# Altium schematic symbol library CAPACITORS.SchLib: 70 symbols
Pins are listed as number, name and electrical type; pins without a type are passive.

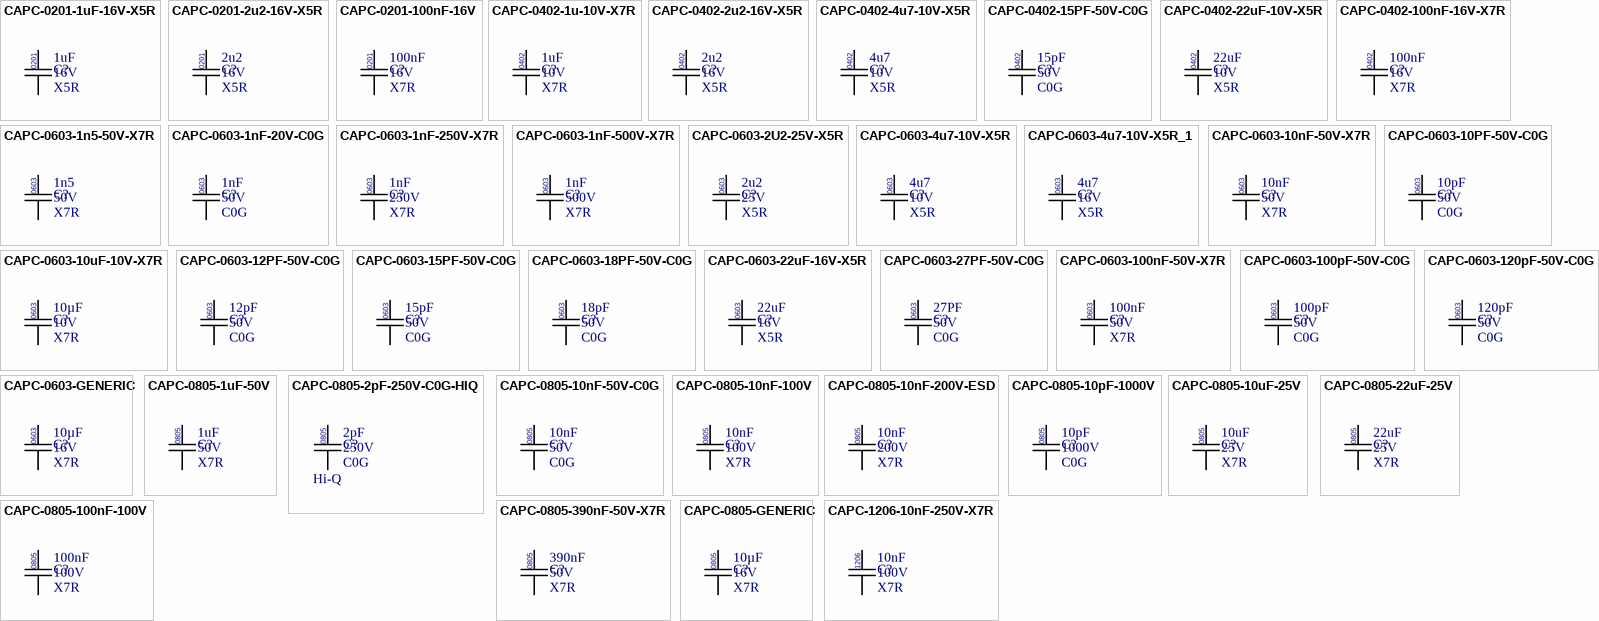
[diagram p0: symbols CAPC-0201-1uF-16V-X5R to CAPC-1206-10nF-250V-X7R]

## CAPC-0201-1uF-16V-X5R
designator C?, comment Dielectric: X5R  Voltage: 16V  Capacitance: 1uF  (hidden comment: CAP0201)
CAPACITOR,CERAMIC,1uF,16V,X5R,0201; Manufacturer 1: SAMSUNG; Manufacturer Part Number 1: CL03A105MO3NRNH; Package / Case: 0402; Location: *; LCSC: C307385; Supplier 1: Digikey; Supplier Part Number 1: 1276-6798-1-ND; MOUSER: 187-CL03A105MO3NRNH
footprint CAPC0201
pins: 1, 2
text: 0201

## CAPC-0201-2u2-16V-X5R
designator C?, comment Dielectric: X5R  Voltage: 16V  Capacitance: 2u2  (hidden comment: CAP0201)
CAPACITOR,CERAMIC,2u2,16V,X5R,0201; Manufacturer 1: MURATA; Manufacturer Part Number 1: GRM035R61C225ME01D; Package / Case: 0402; Location: *; LCSC: C6204143; Supplier 1: Mouser; Supplier Part Number 1: 81-GRM035R61C225ME1D; MOUSER: 81-GRM035R61C225ME1D
footprint CAPC0201
pins: 1, 2
text: 0201

## CAPC-0201-100nF-16V
designator C?, comment Dielectric: X7R  Voltage: 16V  Capacitance: 100nF  (hidden comment: CAP0201)
CAPACITOR,CERAMIC,100nF,16V,X7R,0201; Manufacturer 1: MURATA; Manufacturer Part Number 1: GRM033Z71C104KE14D; Package / Case: 0402; Location: *; LCSC: C668346; Supplier 1: Digikey; Supplier Part Number 1: 490-GRM033Z71C104KE14DCT-ND; MOUSER: 81-GRM033Z71C104KE4D
footprint CAPC0201
pins: 1, 2
text: 0201

## CAPC-0402-1u-10V-X7R
designator C?, comment Dielectric: X7R  Voltage: 10V  Capacitance: 1uF  (hidden comment: CAP0402)
CAPACITOR,CERAMIC,1uF,10V,X7R,0402; Manufacturer 1: MURATA; Manufacturer Part Number 1: GRM155Z71A105KE01D; Package / Case: 0603; Location: *; LCSC: C528974; Supplier 1: Mouser; Supplier Part Number 1: 81-GRM155Z71A105KE1D; MOUSER: 81-GRM155Z71A105KE1D
footprint CAPC0402 (CAPACITOR, CHIP 0402 (1005) 0.5MM THICK)
pins: 1, 2
text: 0402

## CAPC-0402-2u2-16V-X5R
designator C?, comment Dielectric: X5R  Voltage: 16V  Capacitance: 2u2  (hidden comment: CAP0402)
CAPACITOR,CERAMIC,2u2,16V,X5R,0402; Manufacturer 1: SAMSUNG; Manufacturer Part Number 1: CL05A225KO5NQNC; Package / Case: 0402; Location: *; Supplier 1: Digikey; Supplier Part Number 1: 1276-1482-1-ND; LCSC: C170151; MOUSER: 187-CL05A475MP5NRNC
footprint CAPC0402 (CAPACITOR, CHIP 0402 (1005) 0.5MM THICK)
pins: 1, 2

## CAPC-0402-4u7-10V-X5R
designator C?, comment Dielectric: X5R  Voltage: 10V  Capacitance: 4u7  (hidden comment: CAP0402)
CAPACITOR,CERAMIC,4u7,10V,X5R,0402; Manufacturer 1: SAMSUNG; Manufacturer Part Number 1: CL05A475MP5NRNC; Package / Case: 0402; Location: *; Supplier 1: Digikey; Supplier Part Number 1: 1276-1482-1-ND; LCSC: C23733; MOUSER: 187-CL05A475MP5NRNC
footprint CAPC0402 (CAPACITOR, CHIP 0402 (1005) 0.5MM THICK)
pins: 1, 2

## CAPC-0402-15PF-50V-C0G
designator C?, comment Dielectric: C0G  Voltage: 50V  Capacitance: 15pF  (hidden comment: CAP0603)
CAPACITOR,CERAMIC,15pF,50V,C0G,0402; Manufacturer 1: YAGEO; Manufacturer Part Number 1: CC0402KRNPO9BN150; Package / Case: 0402; Location: *; LCSC: C3906764; Supplier 1: Digikey; Supplier Part Number 1: 311-3780-1-ND; MOUSER: 603-CC402KRNPO9BN150
footprint CAPC0402 (CAPACITOR, CHIP 0402 (1005) 0.5MM THICK)
pins: 1, 2

## CAPC-0402-22uF-10V-X5R
designator C?, comment Dielectric: X5R  Voltage: 10V  Capacitance: 22uF  (hidden comment: CAP0402)
CAPACITOR,CERAMIC,22uF,10V,X5R,0402; Manufacturer 1: SAMSUNG; Package / Case: 0402; Location: *; Supplier 1: Digikey; Supplier Part Number 1: 1276-1482-1-ND; LCSC: C6119813
footprint CAPC0402 (CAPACITOR, CHIP 0402 (1005) 0.5MM THICK)
pins: 1, 2

## CAPC-0402-100nF-16V-X7R
designator C?, comment Dielectric: X7R  Voltage: 16V  Capacitance: 100nF  (hidden comment: CAP0402)
CAPACITOR,CERAMIC,100nF,16V,X7R,0402; Manufacturer 1: YAGEO; Manufacturer Part Number 1: CC0402KRX7R7BB104; Package / Case: 0402; Location: *; Supplier 1: Digikey; Supplier Part Number 1: 1292-1630-1-ND; LCSC: C60474; MOUSER: 603-CC402KRX7R7BB104
footprint CAPC0402 (CAPACITOR, CHIP 0402 (1005) 0.5MM THICK)
pins: 1, 2

## CAPC-0603-1n5-50V-X7R
designator C?, comment Dielectric: X7R  Voltage: 50V  Capacitance: 1n5  (hidden comment: CAP0603)
CAPACITOR,CERAMIC,1n5,50V,X7R,0603; Package / Case: 0603; Location: *
footprint CAPC0603 (CAPACITOR, CHIP 0603 (1608) 0.5MM THICK)
pins: 1, 2

## CAPC-0603-1nF-20V-C0G
designator C?, comment Dielectric: C0G  Voltage: 50V  Capacitance: 1nF  (hidden comment: CAP0603)
CAPACITOR,CERAMIC,1nF,50V,C0G,0603; Package / Case: 0603; Location: *
footprint CAPC0603 (CAPACITOR, CHIP 0603 (1608) 0.5MM THICK)
pins: 1, 2

## CAPC-0603-1nF-250V-X7R
designator C?, comment Dielectric: X7R  Voltage: 250V  Capacitance: 1nF  (hidden comment: CAP0603)
CAPACITOR,CERAMIC,1nF,250V,X7R,0603; Manufacturer 1: YAGEO; Manufacturer Part Number 1: CC0603KRX7RYBB102; Package / Case: 0603; Location: *; LCSC: C277510; Supplier 1: Digikey; Supplier Part Number 1: 311-4104-1-ND; MOUSER: 603-CC0603KRYBB102
footprint CAPC0603 (CAPACITOR, CHIP 0603 (1608) 0.5MM THICK)
pins: 1, 2

## CAPC-0603-1nF-500V-X7R
designator C?, comment Dielectric: X7R  Voltage: 500V  Capacitance: 1nF  (hidden comment: CAP0603)
CAPACITOR,CERAMIC,1nF,500V,X7R,0603; Manufacturer 1: KEMET; Manufacturer Part Number 1: C0603C102KCRACTU; Package / Case: 0603; Location: *; LCSC: C48579276; MOUSER: 80-C0603C102KCRACTU
footprint CAPC0603 (CAPACITOR, CHIP 0603 (1608) 0.5MM THICK)
pins: 1, 2

## CAPC-0603-2U2-25V-X5R
designator C?, comment Dielectric: X5R  Voltage: 25V  Capacitance: 2u2  (hidden comment: CAP0603)
CAPACITOR,CERAMIC,2u2,25V,X5R,0603; Manufacturer 1: MURATA; Manufacturer Part Number 1: GRM188R61E225KA12D; Package / Case: 0603; Location: *; Supplier 1: Digikey; Supplier Part Number 1: 587-2909-1-ND; Supplier 2: Mouser; Supplier Part Number 2: 81-GRM188R61E225KA2D; Supplier 3: Digikey; Supplier Part Number 3: 445-5964-1-ND; MOUSER: 81-GRM188R61E225KA2D
footprint CAPC0603 (CAPACITOR, CHIP 0603 (1608) 0.5MM THICK)
pins: 1, 2

## CAPC-0603-4u7-10V-X5R
designator C?, comment Dielectric: X5R  Voltage: 10V  Capacitance: 4u7  (hidden comment: CAP0603)
CAPACITOR,CERAMIC,4u7,10V,X5R,0603; Manufacturer 1: SAMSUNG; Manufacturer Part Number 1: CL10A475KP8NNNC; Package / Case: 0603; Location: *; Supplier 1: Arrow Electronics; Supplier Part Number 1: GRM188Z71A475KE15J; LCSC: C1705; MOUSER: 187-CL10A475KP8NNNC
footprint CAPC0603 (CAPACITOR, CHIP 0603 (1608) 0.5MM THICK)
pins: 1, 2

## CAPC-0603-4u7-10V-X5R_1
designator C?, comment Dielectric: X5R  Voltage: 16V  Capacitance: 4u7  (hidden comment: CAP0603)
CAPACITOR,CERAMIC,4u7,16V,X5R,0603; Manufacturer 1: Samsung Electro-Mechanics; Manufacturer Part Number 1: CL10A475KO8NNNC; Package / Case: 0603; Location: *; LCSC: C19666
footprint CAPC0603 (CAPACITOR, CHIP 0603 (1608) 0.5MM THICK)
pins: 1, 2

## CAPC-0603-10nF-50V-X7R
designator C?, comment Dielectric: X7R  Voltage: 50V  Capacitance: 10nF  (hidden comment: CAP0603)
CAPACITOR,CERAMIC,10nF,50V,X7R,0603; Package / Case: 0603; Location: *
footprint CAPC0603 (CAPACITOR, CHIP 0603 (1608) 0.5MM THICK)
pins: 1, 2

## CAPC-0603-10PF-50V-C0G
designator C?, comment Dielectric: C0G  Voltage: 50V  Capacitance: 10pF  (hidden comment: CAP0603)
CAPACITOR,CERAMIC,10pF,50V,C0G,0603; Manufacturer 1: KYOCERA; Manufacturer Part Number 1: C0603C100J5GAC; Package / Case: 0603; Location: *; MOUSER: 80-C0603C100J5GAC
footprint CAPC0603 (CAPACITOR, CHIP 0603 (1608) 0.5MM THICK)
pins: 1, 2

## CAPC-0603-10uF-10V-X7R
designator C?, comment Dielectric: X7R  Voltage: 10V  Capacitance: 10µF  (hidden comment: CAP0603)
CAPACITOR,CERAMIC,10uF,10V,X7R,0603; Manufacturer 1: MURATA; Manufacturer Part Number 1: GRM188Z71A106KA73D; Package / Case: 0603; Location: *; LCSC: C2959727
footprint CAPC0603 (CAPACITOR, CHIP 0603 (1608) 0.5MM THICK)
pins: 1, 2

## CAPC-0603-12PF-50V-C0G
designator C?, comment Dielectric: C0G  Voltage: 50V  Capacitance: 12pF  (hidden comment: CAP0603)
CAPACITOR,CERAMIC,12pF,50V,C0G,0603; Manufacturer 1: KYOCERA; Manufacturer Part Number 1: 06035A120CAT2A; Package / Case: 0603; Location: *; MOUSER: 581-06035A120CAT2A
footprint CAPC0603 (CAPACITOR, CHIP 0603 (1608) 0.5MM THICK)
pins: 1, 2

## CAPC-0603-15PF-50V-C0G
designator C?, comment Dielectric: C0G  Voltage: 50V  Capacitance: 15pF  (hidden comment: CAP0603)
CAPACITOR,CERAMIC,15pF,50V,C0G,0603; Manufacturer 1: KEMET; Manufacturer Part Number 1: C0603C150J5GACAUTO; Package / Case: 0603; Location: *; MOUSER: 80-C0603C150J5GAUTO
footprint CAPC0603 (CAPACITOR, CHIP 0603 (1608) 0.5MM THICK)
pins: 1, 2

## CAPC-0603-18PF-50V-C0G
designator C?, comment Dielectric: C0G  Voltage: 50V  Capacitance: 18pF  (hidden comment: CAP0603)
CAPACITOR,CERAMIC,18pF,50V,C0G,0603; Manufacturer 1: KEMET; Manufacturer Part Number 1: C0603C180K5GACTU; Package / Case: 0603; Location: *; LCSC: C2169518; MOUSER: 80-C0603C180K5G
footprint CAPC0603 (CAPACITOR, CHIP 0603 (1608) 0.5MM THICK)
pins: 1, 2

## CAPC-0603-22uF-16V-X5R
designator C?, comment Dielectric: X5R  Voltage: 16V  Capacitance: 22uF  (hidden comment: CAP0603)
CAPACITOR,CERAMIC,22uF,16V,X5R,0603; Manufacturer 1: SAMSUNG; Manufacturer Part Number 1: CL10A226MO7JZNC; Package / Case: 0603; Location: *; Supplier 1: Digikey; Supplier Part Number 1: 1276-7076-1-ND; LCSC: C2762594; MOUSER: 187-CL10A226MO7JZNC
footprint CAPC0603 (CAPACITOR, CHIP 0603 (1608) 0.5MM THICK)
pins: 1, 2

## CAPC-0603-27PF-50V-C0G
designator C?, comment Dielectric: C0G  Voltage: 50V  Capacitance: 27PF  (hidden comment: CAP0603)
CAPACITOR,CERAMIC,27pF,50V,C0G,0603; Package / Case: 0603; Location: *
footprint CAPC0603 (CAPACITOR, CHIP 0603 (1608) 0.5MM THICK)
pins: 1, 2

## CAPC-0603-100nF-50V-X7R
designator C?, comment Dielectric: X7R  Voltage: 50V  Capacitance: 100nF  (hidden comment: CAP0603)
CAPACITOR,CERAMIC,100nF,50V,X7R,0603; Manufacturer 1: KEMET; Manufacturer Part Number 1: C0603C104K5RACTU; Package / Case: 0603; Location: *; LCSC: C14663; MOUSER: 80-C0603C104K5R
footprint CAPC0603 (CAPACITOR, CHIP 0603 (1608) 0.5MM THICK)
pins: 1, 2

## CAPC-0603-100pF-50V-C0G
designator C?, comment Dielectric: C0G  Voltage: 50V  Capacitance: 100pF  (hidden comment: CAP0603)
CAPACITOR,CERAMIC,100pF,50V,C0G,0603; Package / Case: 0603; Location: *
footprint CAPC0603 (CAPACITOR, CHIP 0603 (1608) 0.5MM THICK)
pins: 1, 2

## CAPC-0603-120pF-50V-C0G
designator C?, comment Dielectric: C0G  Voltage: 50V  Capacitance: 120pF  (hidden comment: CAP0603)
CAPACITOR,CERAMIC,120pF,50V,C0G,0603; Package / Case: 0603; Location: *
footprint CAPC0603 (CAPACITOR, CHIP 0603 (1608) 0.5MM THICK)
pins: 1, 2

## CAPC-0603-GENERIC
designator C?, comment Dielectric: X7R  Voltage: 16V  Capacitance: 10µF  (hidden comment: CAP0603)
CAPACITOR 0603 CERAMIC; Manufacturer Part Number 1: GENERIC; Package / Case: 0603; Location: *
footprint CAPC0603 (CAPACITOR, CHIP 0603 (1608) 0.5MM THICK)
pins: 1, 2

## CAPC-0805-1uF-50V
designator C?, comment Dielectric: X7R  Voltage: 50V  Capacitance: 1uF  (hidden comment: CAP0805)
CAPACITOR,CERAMIC,1uF,50V,X7R,0805; Package / Case: 0805 (2012 metric); Location: *
footprint CAPC0805 (CAPACITOR, CHIP 0805 (2012) 0.85MM THICK)
pins: 1, 2
text: 0805

## CAPC-0805-2pF-250V-C0G-HIQ
designator C?, comment SPECIAL: Hi-Q  Dielectric: C0G  Voltage: 250V  Capacitance: 2pF  (hidden comment: CAP0805)
CAPACITOR,CERAMIC,2pF,250V,C0G,0805,HIQ; Manufacturer 1: JOHANSON; Manufacturer Part Number 1: 251R15S2R0AV4E; Package / Case: 0805 (2012 metric); Location: *; MOUSER: 609-251R15S2R0AV4E
footprint CAPC0805 (CAPACITOR, CHIP 0805 (2012) 0.85MM THICK)
pins: 1, 2
text: 0805

## CAPC-0805-10nF-50V-C0G
designator C?, comment Dielectric: C0G  Voltage: 50V  Capacitance: 10nF  (hidden comment: CAP0805)
CAPACITOR,CERAMIC,10nF,100V,C0G,0805; Manufacturer 1: KEMET; Manufacturer Part Number 1: C0805C103K5GEC7210; Package / Case: 0805 (2012 metric); Location: *; DIGIKEY: 399-C0805C103K5GEC7210CT-ND
footprint CAPC0805 (CAPACITOR, CHIP 0805 (2012) 0.85MM THICK)
pins: 1, 2
text: 0805

## CAPC-0805-10nF-100V
designator C?, comment Dielectric: X7R  Voltage: 100V  Capacitance: 10nF  (hidden comment: CAP0805)
CAPACITOR,CERAMIC,10nF,100V,X7R,0805; Package / Case: 0805 (2012 metric); Location: *
footprint CAPC0805 (CAPACITOR, CHIP 0805 (2012) 0.85MM THICK)
pins: 1, 2
text: 0805

## CAPC-0805-10nF-200V-ESD
designator C?, comment Dielectric: X7R  Voltage: 200V  Capacitance: 10nF  (hidden comment: CAP0805)
CAPACITOR,CERAMIC,10nF,200V,X7R,0805,ESD; Manufacturer 1: KEMET; Manufacturer Part Number 1: C0805C103K2RECAUTO; Package / Case: 0805 (2012 metric); Location: *; LCSC: C36911368; Supplier 1: Mouser; Supplier Part Number 1: 80-C0805C103K2RECAUT; MOUSER: 80-C0805C103K2RECAUT
footprint CAPC0805 (CAPACITOR, CHIP 0805 (2012) 0.85MM THICK)
pins: 1, 2
text: 0805

## CAPC-0805-10pF-1000V
designator C?, comment Dielectric: C0G  Voltage: 1000V  Capacitance: 10pF  (hidden comment: CAP0805)
CAPACITOR,CERAMIC,10pF,1000V,C0G,0805; Manufacturer 1: YAGEO; Manufacturer Part Number 1: CC0805JRNPOCBN100; Package / Case: 0805 (2012 metric); Location: *
footprint CAPC0805 (CAPACITOR, CHIP 0805 (2012) 0.85MM THICK)
pins: 1, 2
text: 0805

## CAPC-0805-10uF-25V
designator C?, comment Dielectric: X7R  Voltage: 25V  Capacitance: 10uF  (hidden comment: CAP0805)
CAPACITOR,CERAMIC,10uF,25V,X5R,0805; Manufacturer 1: SAMSUNG; Manufacturer Part Number 1: CL21B106KAYQNNE; Package / Case: 0805 (2012 metric); Location: *; LCSC: C3039694; MOUSER: 187-CL21B106KAYQNNE
footprint CAPC0805 (CAPACITOR, CHIP 0805 (2012) 0.85MM THICK)
pins: 1, 2
text: 0805

## CAPC-0805-22uF-25V
designator C?, comment Dielectric: X7R  Voltage: 25V  Capacitance: 22uF  (hidden comment: CAP0805)
CAPACITOR,CERAMIC,22uF,25V,X5R,0805; Manufacturer 1: SAMSUNG; Manufacturer Part Number 1: CL21A226MAYNNNE; Package / Case: 0805 (2012 metric); Location: *; MOUSER: 187-CL21A226MAYNNNE
footprint CAPC0805 (CAPACITOR, CHIP 0805 (2012) 0.85MM THICK)
pins: 1, 2
text: 0805

## CAPC-0805-100nF-100V
designator C?, comment Dielectric: X7R  Voltage: 100V  Capacitance: 100nF  (hidden comment: CAP0805)
CAPACITOR,CERAMIC,100nF,100V,X7R,0805; Package / Case: 0805 (2012 metric); Location: *
footprint CAPC0805 (CAPACITOR, CHIP 0805 (2012) 0.85MM THICK)
pins: 1, 2
text: 0805

## CAPC-0805-390nF-50V-X7R
designator C?, comment Dielectric: X7R  Voltage: 50V  Capacitance: 390nF  (hidden comment: CAP0805)
CAPACITOR,CERAMIC,390nF,50V,X7R,0805; Manufacturer 1: KEMET; Manufacturer Part Number 1: C0805C394K5RACTU; Package / Case: 0805 (2012 metric); Location: *
footprint CAPC0805 (CAPACITOR, CHIP 0805 (2012) 0.85MM THICK)
pins: 1, 2
text: 0805

## CAPC-0805-GENERIC
designator C?, comment Dielectric: X7R  Voltage: 16V  Capacitance: 10µF  (hidden comment: CAP0805)
CAPACITOR 0805 CERAMIC; Manufacturer Part Number 1: GENERIC; Package / Case: 0805 (2012 metric); Location: *
footprint CAPC0805 (CAPACITOR, CHIP 0805 (2012) 0.85MM THICK)
pins: 1, 2
text: 0805

## CAPC-1206-10nF-250V-X7R
designator C?, comment Dielectric: X7R  Voltage: 100V  Capacitance: 10nF  (hidden comment: CAP01206)
CAPACITOR,CERAMIC,10nF,250V,X7R,1206; Package / Case: 0805 (2012 metric); Location: *
footprint CAPC0805 (CAPACITOR, CHIP 0805 (2012) 0.85MM THICK)
pins: 1, 2
text: 1206

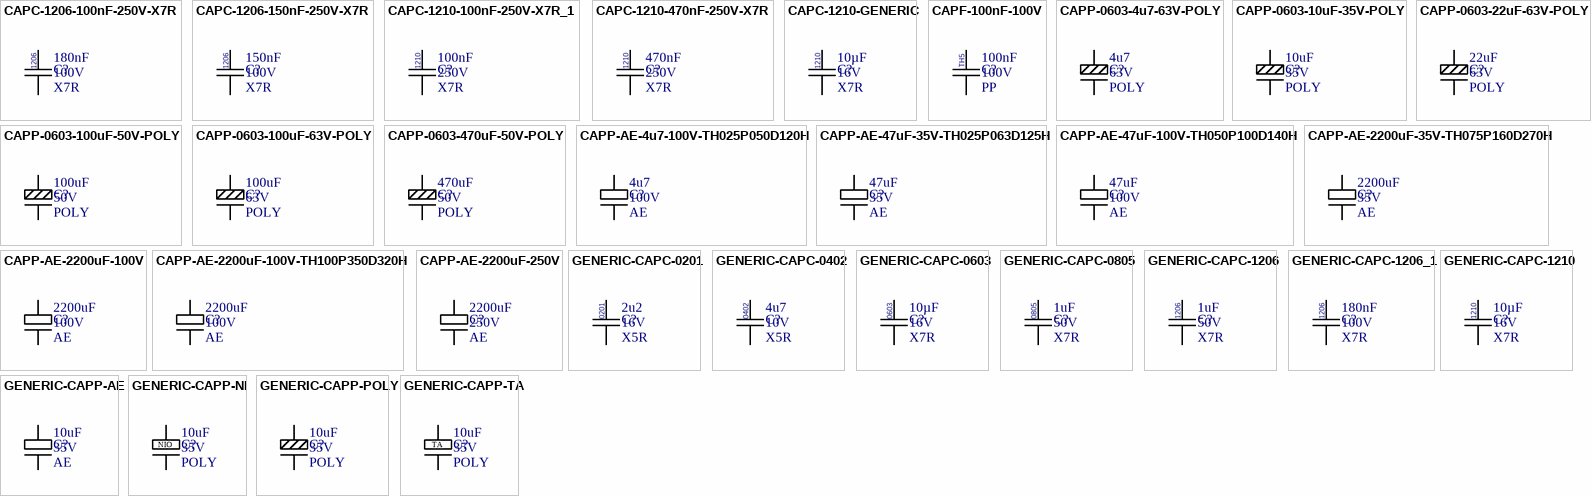
[diagram p1: symbols CAPC-1206-100nF-250V-X7R to GENERIC-CAPP-TA]

## CAPC-1206-100nF-250V-X7R
designator C?, comment Dielectric: X7R  Voltage: 100V  Capacitance: 180nF  (hidden comment: CAP01206)
CAPACITOR,CERAMIC,100nF,250V,X7R,1206; Package / Case: 0805 (2012 metric); Location: *
footprint CAPC0805 (CAPACITOR, CHIP 0805 (2012) 0.85MM THICK)
pins: 1, 2
text: 1206

## CAPC-1206-150nF-250V-X7R
designator C?, comment Dielectric: X7R  Voltage: 100V  Capacitance: 150nF  (hidden comment: CAP01206)
CAPACITOR,CERAMIC,150nF,250V,X7R,1206; Package / Case: 0805 (2012 metric); Location: *
footprint CAPC0805 (CAPACITOR, CHIP 0805 (2012) 0.85MM THICK)
pins: 1, 2
text: 1206

## CAPC-1210-100nF-250V-X7R_1
designator C?, comment Dielectric: X7R  Voltage: 250V  Capacitance: 100nF  (hidden comment: CAPC-1210-100nF-250V-X7R)
CAPACITOR,CERAMIC,100nF,250V,X7R,1210; Manufacturer 1: WALSIN; Manufacturer Part Number 1: SH43B474K251CT; Package / Case: 1210 (3225 METRIC); Location: *; Supplier 1: Mouser; Supplier Part Number 1: 80-C1210C474KARACTU; Supplier 2: Digikey; Supplier Part Number 2: 4587-C1210X474K251TCT-ND; Supplier 3: Digikey; Supplier Part Number 3: 4713-CHV1210N250474KXTCT-ND; Supplier 4: Mouser; Supplier Part Number 4: 80-C1210C474KARAUTO; Supplier 5: Mouser; Supplier Part Number 5: 80-C1210X474KARAUTO; MOUSER: 791-SH43B474K251CT
footprint CAPC1210 (CAPACITOR CHIP 1210 (3225) 2.00MM THICK)
pins: 1, 2
text: 1210

## CAPC-1210-470nF-250V-X7R
designator C?  Dielectric: X7R  Voltage: 250V  Capacitance: 470nF  (hidden comment: CAPC-1210-470nF-250V-X7R)
CAPACITOR,CERAMIC,470nF,250V,X7R,1210; Manufacturer 1: WALSIN; Manufacturer Part Number 1: SH43B474K251CT; Package / Case: 1210 (3225 METRIC); Location: *; Supplier 1: Mouser; Supplier Part Number 1: 80-C1210C474KARACTU; Supplier 2: Digikey; Supplier Part Number 2: 4587-C1210X474K251TCT-ND; Supplier 3: Digikey; Supplier Part Number 3: 4713-CHV1210N250474KXTCT-ND; Supplier 4: Mouser; Supplier Part Number 4: 80-C1210C474KARAUTO; Supplier 5: Mouser; Supplier Part Number 5: 80-C1210X474KARAUTO; MOUSER: 791-SH43B474K251CT
footprint CAPC1210 (CAPACITOR CHIP 1210 (3225) 2.00MM THICK)
pins: 1, 2
text: 1210

## CAPC-1210-GENERIC
designator C?, comment Dielectric: X7R  Voltage: 16V  Capacitance: 10µF  (hidden comment: CAP1210)
CAPACITOR 1210 CERAMIC; Manufacturer Part Number 1: GENERIC; Package / Case: 0805 (2012 metric); Location: *
footprint CAPC1210 (CAPACITOR CHIP 1210 (3225) 2.00MM THICK)
pins: 1, 2
text: 1210

## CAPF-100nF-100V
designator C?, comment Dielectric: PP  Voltage: 100V  Capacitance: 100nF  (hidden comment: CAPF)
CAPACITOR,POLYPROP,100nF,100V; Manufacturer 1: KEMET; Manufacturer Part Number 1: PHE426DJ6100JR05; Package / Case: CAPF50P720X720; Location: *; DIGIKEY: 399-11462-ND
footprint CAPF50P720X720
pins: 1, 2
text: TH5

## CAPP-0603-4u7-63V-POLY
designator C?, comment Dielectric: POLY  Voltage: 63V  Capacitance: 4u7  (hidden comment: CAPP)
CAPACITOR,POLYMER,4u7,63V; Manufacturer 1: PANASONIC; Manufacturer Part Number 1: EEHZC1H101P; Package / Case: CAPP100D102H; Location: *; LCSC: C161937
footprint CAPC0603 (CAPACITOR, CHIP 0603 (1608) 0.5MM THICK)
pins: 1, 2

## CAPP-0603-10uF-35V-POLY
designator C?, comment Dielectric: POLY  Voltage: 35V  Capacitance: 10uF  (hidden comment: CAPP)
CAPACITOR,POLYMER,10uF,35V,63X77; Manufacturer 1: KNSCHA; Manufacturer Part Number 1: 118EC422; Package / Case: CAPP63D77H; Location: *; LCSC: C46528074
footprint CAPC0603 (CAPACITOR, CHIP 0603 (1608) 0.5MM THICK)
pins: 1, 2

## CAPP-0603-22uF-63V-POLY
designator C?, comment Dielectric: POLY  Voltage: 63V  Capacitance: 22uF  (hidden comment: CAPP)
CAPACITOR,POLYMER,22uF,63V,100X102; Manufacturer 1: PANASONIC; Manufacturer Part Number 1: EEHZC1H101P; Package / Case: CAPP100D102H; Location: *; LCSC: C161937
footprint CAPC0603 (CAPACITOR, CHIP 0603 (1608) 0.5MM THICK)
pins: 1, 2

## CAPP-0603-100uF-50V-POLY
designator C?, comment Dielectric: POLY  Voltage: 50V  Capacitance: 100uF  (hidden comment: CAPP)
CAPACITOR,POLYMER,100uF,50V,100X102; Manufacturer 1: PANASONIC; Manufacturer Part Number 1: EEHZC1H101P; Package / Case: CAPP100D102H; Location: *; LCSC: C161937
footprint CAPC0603 (CAPACITOR, CHIP 0603 (1608) 0.5MM THICK)
pins: 1, 2

## CAPP-0603-100uF-63V-POLY
designator C?, comment Dielectric: POLY  Voltage: 63V  Capacitance: 100uF  (hidden comment: CAPP)
CAPACITOR,POLYMER,100uF,63V,100X102; Manufacturer 1: PANASONIC; Manufacturer Part Number 1: EEHZC1H101P; Package / Case: CAPP100D102H; Location: *; LCSC: C161937
footprint CAPC0603 (CAPACITOR, CHIP 0603 (1608) 0.5MM THICK)
pins: 1, 2

## CAPP-0603-470uF-50V-POLY
designator C?, comment Dielectric: POLY  Voltage: 50V  Capacitance: 470uF  (hidden comment: CAPP)
CAPACITOR,POLYMER,470uF,50V,100X102; Manufacturer 1: PANASONIC; Manufacturer Part Number 1: EEHZC1H101P; Package / Case: CAPP100D102H; Location: *; LCSC: C161937
footprint CAPC0603 (CAPACITOR, CHIP 0603 (1608) 0.5MM THICK)
pins: 1, 2

## CAPP-AE-4u7-100V-TH025P050D120H
designator C?, comment Dielectric: AE  Voltage: 100V  Capacitance: 4u7  (hidden comment: CAP0603)
CAPACITOR,ALU,4u7,100V,TH,P0.25mm,D50mm,H12mm; Manufacturer 1: PANASONIC; Manufacturer Part Number 1: ECA-2AM4R7I; Location: *
footprint CAPAE-PANASONIC-ECA-2AM4R7I (CAPACITOR,ALU-EL,PANASONIC-ECA-2AM4R7I)
pins: 1, 2

## CAPP-AE-47uF-35V-TH025P063D125H
designator C?, comment Dielectric: AE  Voltage: 35V  Capacitance: 47uF  (hidden comment: CAP0603)
CAPACITOR,ALU,47uF,35V,TH,P0.25mm,D6.3mm,H12.5mm; Manufacturer 1: KEMET; Manufacturer Part Number 1: ESW476M035AE3AA; Location: *
footprint CAPAE-KEMET-ESW476M035AE3AA (CAPACITOR,ALU-EL,KEMET-ESW476M035AE3AA)
pins: 1, 2

## CAPP-AE-47uF-100V-TH050P100D140H
designator C?, comment Dielectric: AE  Voltage: 100V  Capacitance: 47uF  (hidden comment: CAP0603)
CAPACITOR,ALU,47uF,100V,TH,P5mm,D10mm,H14mm; Manufacturer 1: KEMET; Manufacturer Part Number 1: ESL476M100AH9AA; Location: *; DIGIKEY: 399-15746-ND
footprint CAPAE-KEMET-ESL476M100AH9AA (CAPACITOR,ALU-EL,KEMET-ESL476M100AH9AA)
pins: 1, 2

## CAPP-AE-2200uF-35V-TH075P160D270H
designator C?, comment Dielectric: AE  Voltage: 35V  Capacitance: 2200uF  (hidden comment: CAP0603)
CAPACITOR,ALU,2200uF,35V,TH,P7.5mm,D16mm,H27mm; Manufacturer 1: RUBYCON; Manufacturer Part Number 1: 35ZLH2200MEFC16X25; Location: *; DIGIKEY: 1189-2266-ND
footprint CAPAE-RUBYCON-35ZLH2200MEFC16X25 (CAPACITOR,ALU-EL,RUBYCON-35ZLH2200MEFC16X25)
pins: 1, 2

## CAPP-AE-2200uF-100V
designator C?, comment Dielectric: AE  Voltage: 100V  Capacitance: 2200uF  (hidden comment: CAP0603)
CAPACITOR,ALU,2200uF,100V; Location: *
footprint CAPC0603 (CAPACITOR, CHIP 0603 (1608) 0.5MM THICK)
pins: 1, 2

## CAPP-AE-2200uF-100V-TH100P350D320H
designator C?, comment Dielectric: AE  Voltage: 100V  Capacitance: 2200uF  (hidden comment: CAP0603)
CAPACITOR,ALU,2200uF,100V,TH,P10mm,D35mm,H32mm,SNAP; Manufacturer 1: NICHICON; Manufacturer Part Number 1: LGY2A222MELC30; Location: *
footprint CAPAE-NICHICON-LGY2A222MELC30 (CAPACITOR,ALU-EL,SNAP-IN,NICHICON,LGY2A222MELC30)
pins: 1, 2

## CAPP-AE-2200uF-250V
designator C?, comment Dielectric: AE  Voltage: 250V  Capacitance: 2200uF  (hidden comment: CAP0603)
CAPACITOR,ALU,2200uF,250V,63X77; Location: *
footprint CAPC0603 (CAPACITOR, CHIP 0603 (1608) 0.5MM THICK)
pins: 1, 2

## GENERIC-CAPC-0201
designator C?, comment Dielectric: X5R  Voltage: 16V  Capacitance: 2u2  (hidden comment: CAP0201)
CAPACITOR,CERAMIC,2u2,16V,X5R,0201; Manufacturer 1: MURATA; Manufacturer Part Number 1: GRM035R61C225ME01D; Package / Case: 0402; Location: *; LCSC: C6204143; Supplier 1: Mouser; Supplier Part Number 1: 81-GRM035R61C225ME1D; MOUSER: 81-GRM035R61C225ME1D
footprint CAPC0201
pins: 1, 2
text: 0201

## GENERIC-CAPC-0402
designator C?, comment Dielectric: X5R  Voltage: 10V  Capacitance: 4u7  (hidden comment: CAP0402)
CAPACITOR,CERAMIC,4u7,10V,X5R,0402; Manufacturer 1: SAMSUNG; Manufacturer Part Number 1: CL05A475MP5NRNC; Package / Case: 0402; Location: *; Supplier 1: Digikey; Supplier Part Number 1: 1276-1482-1-ND; LCSC: C23733; MOUSER: 187-CL05A475MP5NRNC
footprint CAPC0402 (CAPACITOR, CHIP 0402 (1005) 0.5MM THICK)
pins: 1, 2

## GENERIC-CAPC-0603
designator C?, comment Dielectric: X7R  Voltage: 16V  Capacitance: 10µF  (hidden comment: CAP0603)
CAPACITOR 0603 CERAMIC; Manufacturer Part Number 1: GENERIC; Package / Case: 0603; Location: *
footprint CAPC0603 (CAPACITOR, CHIP 0603 (1608) 0.5MM THICK)
pins: 1, 2

## GENERIC-CAPC-0805
designator C?, comment Dielectric: X7R  Voltage: 50V  Capacitance: 1uF  (hidden comment: CAP0805)
CAPACITOR,CERAMIC,1uF,50V,X7R,0805; Package / Case: 0805 (2012 metric); Location: *
footprint CAPC0805 (CAPACITOR, CHIP 0805 (2012) 0.85MM THICK)
pins: 1, 2
text: 0805

## GENERIC-CAPC-1206
designator C?, comment Dielectric: X7R  Voltage: 50V  Capacitance: 1uF  (hidden comment: CAP0805)
CAPACITOR,CERAMIC,1uF,50V,X7R,1206; Package / Case: 0805 (2012 metric); Location: *
footprint CAPC0805 (CAPACITOR, CHIP 0805 (2012) 0.85MM THICK)
pins: 1, 2
text: 1206

## GENERIC-CAPC-1206_1
designator C?, comment Dielectric: X7R  Voltage: 100V  Capacitance: 180nF  (hidden comment: CAP0805)
CAPACITOR,CERAMIC,180nF,100V,X7R,1206; Package / Case: 0805 (2012 metric); Location: *
footprint CAPC0805 (CAPACITOR, CHIP 0805 (2012) 0.85MM THICK)
pins: 1, 2
text: 1206

## GENERIC-CAPC-1210
designator C?, comment Dielectric: X7R  Voltage: 16V  Capacitance: 10µF  (hidden comment: CAP1210)
CAPACITOR 1210 CERAMIC; Manufacturer Part Number 1: GENERIC; Package / Case: 0805 (2012 metric); Location: *
footprint CAPC1210 (CAPACITOR CHIP 1210 (3225) 2.00MM THICK)
pins: 1, 2
text: 1210

## GENERIC-CAPP-AE
designator C?, comment Dielectric: AE  Voltage: 35V  Capacitance: 10uF  (hidden comment: CAP0603)
CAPACITOR,ALU,10uF,35V,63X77; Location: *
footprint CAPC0603 (CAPACITOR, CHIP 0603 (1608) 0.5MM THICK)
pins: 1, 2

## GENERIC-CAPP-NI
designator C?, comment Dielectric: POLY  Voltage: 35V  Capacitance: 10uF  (hidden comment: CAP0603)
CAPACITOR,NIOB,10uF,35V,63X77; Manufacturer 1: KNSCHA; Manufacturer Part Number 1: 118EC422; Package / Case: CAPP63D77H; Location: *; LCSC: C46528074
footprint CAPC0603 (CAPACITOR, CHIP 0603 (1608) 0.5MM THICK)
pins: 1, 2
text: NIO

## GENERIC-CAPP-POLY
designator C?, comment Dielectric: POLY  Voltage: 35V  Capacitance: 10uF  (hidden comment: CAP0603)
CAPACITOR,POLYMER,10uF,35V,63X77; Manufacturer 1: KNSCHA; Manufacturer Part Number 1: 118EC422; Package / Case: CAPP63D77H; Location: *; LCSC: C46528074
footprint CAPC0603 (CAPACITOR, CHIP 0603 (1608) 0.5MM THICK)
pins: 1, 2

## GENERIC-CAPP-TA
designator C?, comment Dielectric: POLY  Voltage: 35V  Capacitance: 10uF  (hidden comment: CAP0603)
CAPACITOR,TANT,10uF,35V,63X77; Manufacturer 1: KNSCHA; Manufacturer Part Number 1: 118EC422; Package / Case: CAPP63D77H; Location: *; LCSC: C46528074
footprint CAPC0603 (CAPACITOR, CHIP 0603 (1608) 0.5MM THICK)
pins: 1, 2
text: TA